# Altium schematic symbol library 7914G-1-032E.SchLib: 1 symbol
Pins are listed as number, name and electrical type; pins without a type are passive.

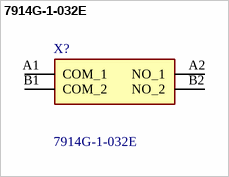
[diagram p0: symbol 7914G-1-032E]

## 7914G-1-032E
designator X?
Tactile Switches 4mm KEY SWITCH SMD Gull Wing; Manufacturer_Name: Bourns; Geometry.Height: 3.43mm; Manufacturer_Part_Number: 7914G-1-032E; Mouser Part Number: 652-7914G-1-032E; Mouser Price/Stock: https://www.mouser.co.uk/ProductDetail/Bourns/7914G-1-032E?qs=b0Ldvwy66%2F%2FgyAckl4Lgjg%3D%3D; Arrow Part Number: 7914G-1-032E; Arrow Price/Stock: https://www.arrow.com/en/products/7914g-1-032e/bourns?region=nac; Datasheet Link: https://www.bourns.com/docs/Product-Datasheets/7914.pdf
footprint 7914G1032E
pins: A1 COM_1, A2 NO_1, B1 COM_2, B2 NO_2